# Altium integrated library ICs_AnalogSwitches.IntLib: 1 symbol
Pins are listed as number, name and electrical type; pins without a type are passive.

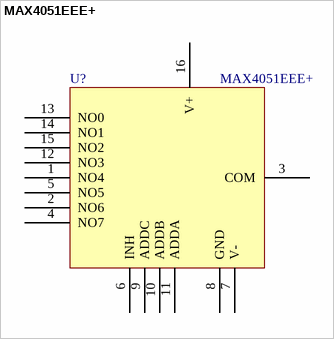
[diagram p0: symbol MAX4051EEE+]

## MAX4051EEE+
designator U?
IC MULTIPLEXER 8X1 16QSOP; Manufacturer: Maxim Integrated; Circuit: 1 x 8:1; On-State Resistance: 100 Ohm; Voltage Supply Source: Single, Dual Supply; Voltage - Supply, Single/Dual (±): 2 V ~ 16 V, ±2.7 V ~ 8 V; Supplier 1: Digi-Key; Manufacturer Part Number: MAX4051EEE+; RoHS: RoHS Compliant; Category: Integrated Circuits (ICs); Stock 1: 183; Pricing 1: 1=5.62, 10=5.339, 25=3.75, 50=3.5626, 100=2.71, 250=2.57448, 500=2.38426 (USD); Packaging: Tube; Function: Multiplexer; Current - Supply: -; Operating Temperature: -40°C ~ 85°C; Mounting Type: Surface Mount; Package / Case: 16-SSOP (0.154", 3.90mm Width); Supplier Device Package: 16-QSOP; ComponentLink1URL: http://datasheets.maximintegrated.com/en/ds/MAX4051-MAX4053A.pdf; ComponentLink1Description: http://datasheets.maximintegrated.com/en/ds/MAX4051-MAX4053A.pdf; Supplier Part Number 1: MAX4051EEE+-ND
footprint MAXIM_QSOP16 (SOP, 16-Leads, Body 5.0x4.0mm (max), Pitch 0.63mm, IPC Medium Density)
pins: 1 NO4, 2 NO6, 3 COM, 4 NO7, 5 NO5, 6 INH, 7 V-, 8 GND, 9 ADDC, 10 ADDB, 11 ADDA, 12 NO3, 13 NO0, 14 NO1, 15 NO2, 16 V+